# EAGLE library part DG211BDY-E3 (library Vishay)
Improved Quad CMOS Analog Switches
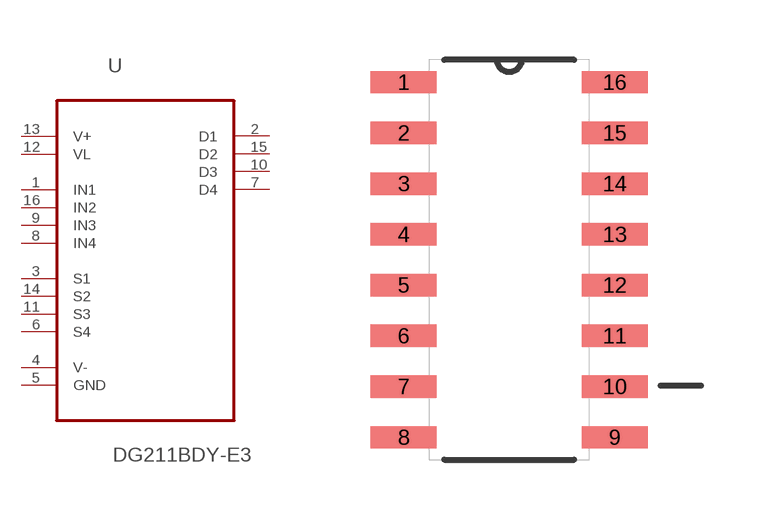
[diagram p7: symbol with the pads of SOIC127P600X175-16N; footprint SOIC127P600X175-16N]

Designator prefix U

## DG211BDY-E3 (MPN: DG211BDY-E3; OC_FARNELL: 1077097; OC_NEWARK: 91K6742; PACKAGE: SOIC-16; SUPPLIER: Vishay)  [SOIC127P600X175-16N]
1  IN1  in
2  D1  out
3  S1  pas
4  V-  pwr
5  GND  pas
6  S4  pas
7  D4  out
8  IN4  in
9  IN3  in
10  D3  out
11  S3  pas
12  VL  pwr
13  V+  pwr
14  S2  pas
15  D2  out
16  IN2  in

## Footprint SOIC127P600X175-16N (pad centres in mm)
smd 1.651 x 0.559: 1 -2.642,4.445; 2 -2.642,3.175; 3 -2.642,1.905; 4 -2.642,0.635; 5 -2.642,-0.635; 6 -2.642,-1.905; 7 -2.642,-3.175; 8 -2.642,-4.445; 9 2.642,-4.445; 10 2.642,-3.175; 11 2.642,-1.905; 12 2.642,-0.635; 13 2.642,0.635; 14 2.642,1.905; 15 2.642,3.175; 16 2.642,4.445